# Altium footprint library HLK-PM03.PcbLib: 1 footprints
Each footprint in its own frame and in the unit in brackets; x right, y up, seen from the top. Pads: shape width x height; smd on the part's side, far side on the other; paste and mask are expansions set on the pad; w line width, h text height; cw(c..) or ccw(c..) is an arc to the next point about the centre after c.
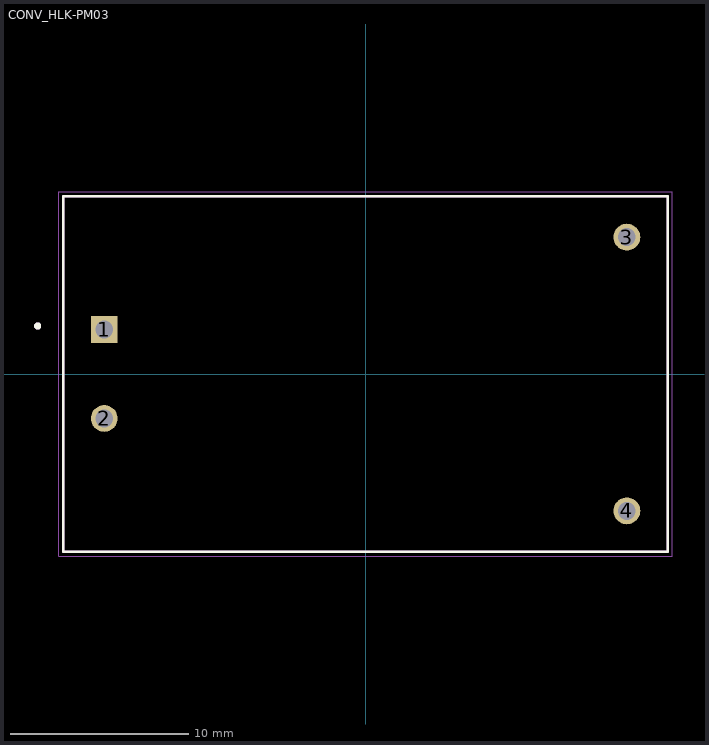
[diagram p0: the footprint, top view; thin cyan lines are the x and y axes]

## CONV_HLK-PM03 [mm]
pads (4):
  rect 1.508x1.508 hole 1: 1(-14.7,2.5)
  round 1.508 hole 1: 2(-14.7,-2.5) 3(14.7,7.7) 4(14.7,-7.7)
Top Overlay:
  circle w0.2: c-18.45,2.7 r0.1
  lines w0.127: -17,-10 -17,10 17,10 17,-10 -17,-10
Mechanical 13:
  circle w0.2: c-18.45,2.7 r0.1
  lines w0.127: -17,-10 -17,10 17,10 17,-10 -17,-10
Mechanical 15:
  lines w0.05: -17.25,-10.25 -17.25,10.25 17.25,10.25 17.25,-10.25 -17.25,-10.25
3D body "step_temp.STEP": height 20, standoff 0, extent -17,-10.1 17,10.1